# EAGLE library part CP2200 (library Bauteile)
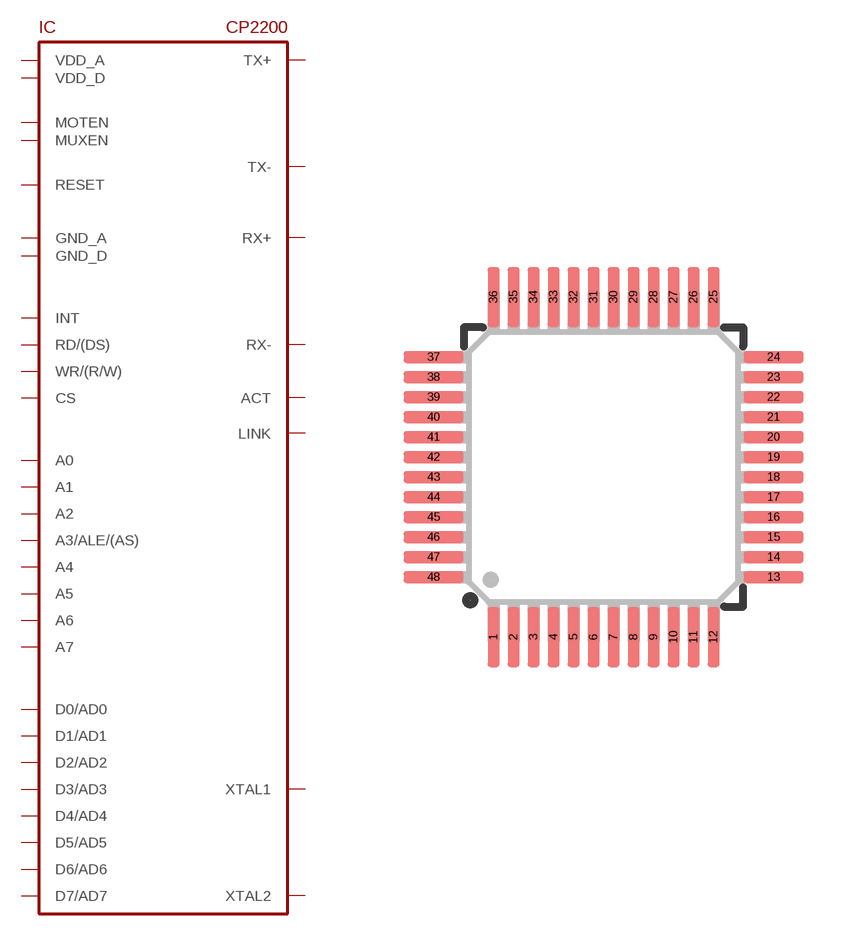
[diagram p107: symbol with the pads of TQFP48-0.5; footprint TQFP48-0.5]

Designator prefix IC

## CP2200  [TQFP48-0.5]
2  ACT
3  LINK
4  GND_A
5  VDD_A
6  RX-
7  RX+
9  TX+
10  TX-
13  VDD_D
14  GND_D
15  RESET
16  D0/AD0
17  D1/AD1
18  D2/AD2
19  D3/AD3
20  D4/AD4
21  D5/AD5
22  D6/AD6
23  D7/AD7
27  A0
28  A1
29  A2
30  VDD_D
31  GND_D
32  A3/ALE/(AS)
33  A4
34  A5
37  A6
38  A7
39  RD/(DS)
40  WR/(R/W)
41  CS
42  INT
43  MOTEN
44  MUXEN
45  XTAL2
46  XTAL1

## Footprint TQFP48-0.5 (pad centres in mm)
Thin Quad Flat Pack
smd 0.3 x 1.5: 1 -2.75,-4.25; 2 -2.25,-4.25; 3 -1.75,-4.25; 4 -1.25,-4.25; 5 -0.75,-4.25; 6 -0.25,-4.25; 7 0.25,-4.25; 8 0.75,-4.25; 9 1.25,-4.25; 10 1.75,-4.25; 11 2.25,-4.25; 12 2.75,-4.25; 25 2.75,4.25; 26 2.25,4.25; 27 1.75,4.25; 28 1.25,4.25; 29 0.75,4.25; 30 0.25,4.25; 31 -0.25,4.25; 32 -0.75,4.25; 33 -1.25,4.25; 34 -1.75,4.25; 35 -2.25,4.25; 36 -2.75,4.25
smd 1.5 x 0.3: 13 4.25,-2.75; 14 4.25,-2.25; 15 4.25,-1.75; 16 4.25,-1.25; 17 4.25,-0.75; 18 4.25,-0.25; 19 4.25,0.25; 20 4.25,0.75; 21 4.25,1.25; 22 4.25,1.75; 23 4.25,2.25; 24 4.25,2.75; 37 -4.25,2.75; 38 -4.25,2.25; 39 -4.25,1.75; 40 -4.25,1.25; 41 -4.25,0.75; 42 -4.25,0.25; 43 -4.25,-0.25; 44 -4.25,-0.75; 45 -4.25,-1.25; 46 -4.25,-1.75; 47 -4.25,-2.25; 48 -4.25,-2.75